# Altium schematic symbol library ERJ-PB6B5232V.SchLib: 1 symbol
Pins are listed as number, name and electrical type; pins without a type are passive.

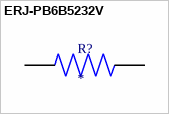
[diagram p0: symbol ERJ-PB6B5232V]

## ERJ-PB6B5232V
designator R?
MP: ERJ-PB6B5232V; Package: None; Price: None; Value: *; Availability: Unavailable
footprint RESC2012X70N
pins: 1, 2